# Altium integrated library LED Driver.IntLib: 5 symbols
Pins are listed as number, name and electrical type; pins without a type are passive.

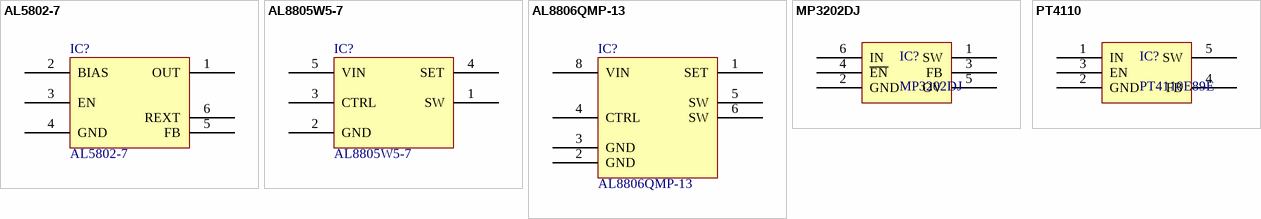
[diagram p0: symbols AL5802-7 to PT4110]

## AL5802-7
designator IC?
IC LED DRVR LIN DIM 120MA SOT26; Manufacturer: Diodes Incorporated; Internal Switch(s): Yes; Number Of Outputs: 1; Voltage - Supply (Min): 4.5V; Voltage - Supply (Max): 30V; Voltage - Output: 0.8 V ~ 30 V; Part Number: AL5802-7; PartId: 10864; Supplier 1: Digi-Key; Supplier Part Number 1: AL5802-7DITR-ND; ComponentLink1Description: Datasheet; ComponentLink1URL: http://www.diodes.com/_files/datasheets/AL5802.pdf; ComponentLink2Description: Digi-Key Listing; ComponentLink2URL: http://www.digikey.com/product-detail/en/diodes-incorporated/AL5802-7/AL5802-7DITR-ND/2792417; Device Package: SOT-23-6; Price: 0.1105; Type: Linear; Series: -; Applications: Signage; Operating Temperature: -40C ~ 125C (TA); Topology: -; Current Output / Channel: 120mA; Frequency: -
footprint DIODES SOT-23-6 W6
pins: 1 OUT, 2 BIAS, 3 EN, 4 GND, 5 FB, 6 REXT

## AL8805W5-7
designator IC?
IC LED DRIVER RGLTR DIM 1A SOT25; Manufacturer: Diodes Incorporated; Topology: Step-Down (Buck); Internal Switch(s): Yes; Number Of Outputs: 1; Voltage - Supply (Min): 6V; Voltage - Supply (Max): 36V; Current Output / Channel: 1A (Switch); Frequency: 1MHz; Part Number: AL8805W5-7; PartId: 10863; Supplier 1: Digi-Key; Supplier Part Number 1: AL8805W5-7DICT-ND; ComponentLink1Description: Datasheet; ComponentLink1URL: http://www.diodes.com/_files/datasheets/AL8805.pdf; ComponentLink2Description: Digi-Key Listing; ComponentLink2URL: http://www.digikey.com/product-detail/en/diodes-incorporated/AL8805W5-7/AL8805W5-7DICT-ND/2426152; Device Package: SC-74A, SOT-753; Price: 0.91; Type: DC DC Regulator; Series: -; Applications: -; Operating Temperature: -40C ~ 125C (TJ); Voltage - Output: -
footprint DIODES SOT-23-5 W5
pins: 1 SW, 2 GND, 3 CTRL, 4 SET, 5 VIN

## AL8806QMP-13
designator IC?
IC LED DRVR RGLTR DIM 1.5A 8MSOP; Manufacturer: Diodes Incorporated; Topology: Step-Down (Buck); Internal Switch(s): Yes; Number Of Outputs: 1; Voltage - Supply (Min): 6V; Voltage - Supply (Max): 30V; Voltage - Output: 36V; Current Output / Channel: 1.5A (Switch); Frequency: 1MHz; Part Number: AL8806QMP-13; PartId: 10862; Supplier 1: Digi-Key; Supplier Part Number 1: AL8806QMP-13DICT-ND; ComponentLink1Description: Datasheet; ComponentLink1URL: http://diodes.com/_files/datasheets/AL8806Q.pdf; ComponentLink2Description: Digi-Key Listing; ComponentLink2URL: http://www.digikey.com/product-detail/en/diodes-incorporated/AL8806QMP-13/AL8806QMP-13DICT-ND/4948445; Device Package: 8-TSSOP, 8-MSOP (0.118", 3.00mm Width) Exposed Pad; Price: 1.31; Type: DC DC Regulator; Series: Automotive, AEC-Q100; Applications: Automotive; Operating Temperature: -40C ~ 125C (TJ)
footprint DIODES MSOP-8EP
pins: 1 SET, 2 GND, 3 GND, 4 CTRL, 5 SW, 6 SW, 8 VIN

## MP3202DJ
designator IC?
1.3A FIXED FREQUENCY WHITE LED DRIVER; Manufacturer: MPS; Number Of Outputs: 1; Internal Switch(s): Yes; Voltage - Output: 25V; Voltage - Supply (Max): 6V; Voltage - Supply (Min): 2.5V; Current Output / Channel: 1.3 A (Switch); Part Number: MP3202DJ; Operating Temperature: –40°C to +85°C; ComponentLink2URL: https://www.digikey.com/product-detail/en/monolithic-power-systems-inc/MP3202DJ-LF-P/1589-1151-2-ND/5298908; ComponentLink2Description: Digi-key listing
footprint MPS TSOT23-6 (Footprint not found)
pins: 1 SW, 2 GND, 3 FB, 4 ~{EN}, 5 OV, 6 IN

## PT4110
designator IC?, comment PT4110E89E
1.5A 2.7V to 5.5V FIXED FREQUENCY WHITE LED DRIVER; Manufacturer: PowTech; Number Of Outputs: 1; Internal Switch(s): Yes; Voltage - Output: 35V; Current Output / Channel: 1.5 A (Switch); Part Number: PT4110E89E; Operating Temperature: –40°C to +85°C; Voltage - Supply (Max): 5.5V; Voltage - Supply (Min): 2.7V; ComponentLink2URL: https://www.buydisplay.com/download/ic/PT4110.pdf; ComponentLink2Description: Datasheet
footprint POWTECH SOT89-5 (SOT89, 5-Leads, Body 4.50x2.45mm, Pitch 1.50mm, Lead Span 4.1mm, IPC Medium Density)
pins: 1 IN, 2 GND, 3 EN, 4 FB, 5 SW